# Altium schematic symbol library TRANS-EN-SGD.SCHLIB: 1 symbol
Pins are listed as number, name and electrical type; pins without a type are passive.

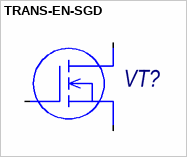
[diagram p0: symbol TRANS-EN-SGD]

## TRANS-EN-SGD
designator VT?
MOSFET
pins: 1 S, 2 G, 3 D